# Altium footprint library SmartCoin.PcbLib: 18 footprints (part 2 of 2)
Each footprint in its own frame and in the unit in brackets; x right, y up, seen from the top. Pads: shape width x height; smd on the part's side, far side on the other; paste and mask are expansions set on the pad; w line width, h text height; cw(c..) or ccw(c..) is an arc to the next point about the centre after c.
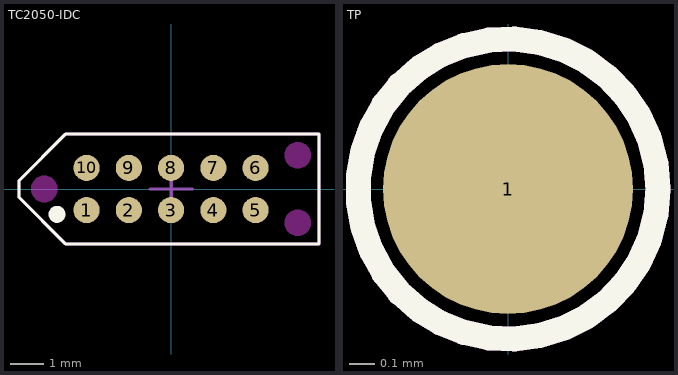
[diagram p1: the footprints below, top view; thin cyan lines are the x and y axes]

## TC2050-IDC [mm]
pads (10):
  round 0.787 smd: 1(-2.54,-0.635) 2(-1.27,-0.635) 3(0,-0.635) 4(1.27,-0.635) 5(2.54,-0.635) 6(2.54,0.635) 7(1.27,0.635) 8(0,0.635) 9(-1.27,0.635) 10(-2.54,0.635)
Top Overlay:
  circle w0.254: c-3.429,-0.762 r0.127
  lines w0.1: -4.572,-0.254 -4.572,0.254 -3.175,1.651 4.445,1.651 4.445,-1.651 -3.175,-1.651 -4.572,-0.254
Keep-Out Layer:
  board cut-out: -3.81,-0.393 -3.888,-0.393 -4.033,-0.334 -4.144,-0.223 -4.203,-0.078 -4.203,0 -4.203,0.078 -4.144,0.223 -4.033,0.334 -3.888,0.393 -3.81,0.393 -3.732,0.393 -3.587,0.334 -3.476,0.223 -3.417,0.078 -3.417,0 -3.417,-0.078 -3.476,-0.223 -3.587,-0.334 -3.732,-0.393
  board cut-out: 3.417,1.015 3.417,1.093 3.476,1.238 3.587,1.349 3.732,1.408 3.81,1.408 3.888,1.408 4.033,1.349 4.144,1.238 4.203,1.093 4.203,1.015 4.203,0.937 4.144,0.792 4.033,0.681 3.888,0.621 3.81,0.621 3.732,0.621 3.587,0.681 3.476,0.792 3.417,0.937
  board cut-out: 3.417,-1.015 3.417,-0.937 3.476,-0.792 3.587,-0.681 3.732,-0.621 3.81,-0.621 3.888,-0.621 4.033,-0.681 4.144,-0.792 4.203,-0.937 4.203,-1.015 4.203,-1.093 4.144,-1.238 4.033,-1.349 3.888,-1.408 3.81,-1.408 3.732,-1.408 3.587,-1.349 3.476,-1.238 3.417,-1.093
Top Courtyard:
  lines w0.1: -4.572,-0.254 -4.572,0.254 -3.175,1.651 4.445,1.651 4.445,-1.651 -3.175,-1.651 -4.572,-0.254
Top Component Center:
  lines w0.1: -0.635,0 0.635,0 ; 0,-0.635 0,0.508

## TP [mm] "Test Point"
pads (1):
  round 1 smd: 1(0,0)
Top Overlay:
  circle w0.1: c0,0 r0.6
Top Courtyard:
  circle w0.1: c0,0 r0.6
Top Component Center:
  lines w0.1: -0.381,0 0.381,0 ; 0,-0.381 0,0.381